# Altium integrated library MAX3232CPW.IntLib: 1 symbol
Pins are listed as number, name and electrical type; pins without a type are passive.

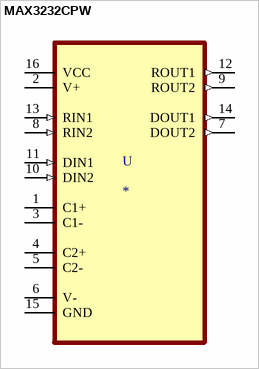
[diagram p0: symbol MAX3232CPW]

## MAX3232CPW
designator U
2/2 Transceiver Full RS232 16-TSSOP; MP: MAX3232CPW; MF: Texas Instruments; Availability: Unavailable; SnapEDA_Link: https://www.snapeda.com/parts/MAX3232CPW/Texas%20Instruments/view-part/396297/?ref=snap; Package: TSSOP-16 Texas Instruments; Price: None; Value: *
footprint SOP65P640X120-16N
pins: 1 C1+, 2 V+ (power), 3 C1-, 4 C2+, 5 C2-, 6 V- (power), 7 DOUT2 (out), 8 RIN2 (in), 9 ROUT2 (out), 10 DIN2 (in), 11 DIN1 (in), 12 ROUT1 (out), 13 RIN1 (in), 14 DOUT1 (out), 15 GND, 16 VCC (power)